# Altium footprint library 2512_C.PcbLib: 1 footprints
Each footprint in its own frame and in the unit in brackets; x right, y up, seen from the top. Pads: shape width x height; smd on the part's side, far side on the other; paste and mask are expansions set on the pad; w line width, h text height; cw(c..) or ccw(c..) is an arc to the next point about the centre after c.
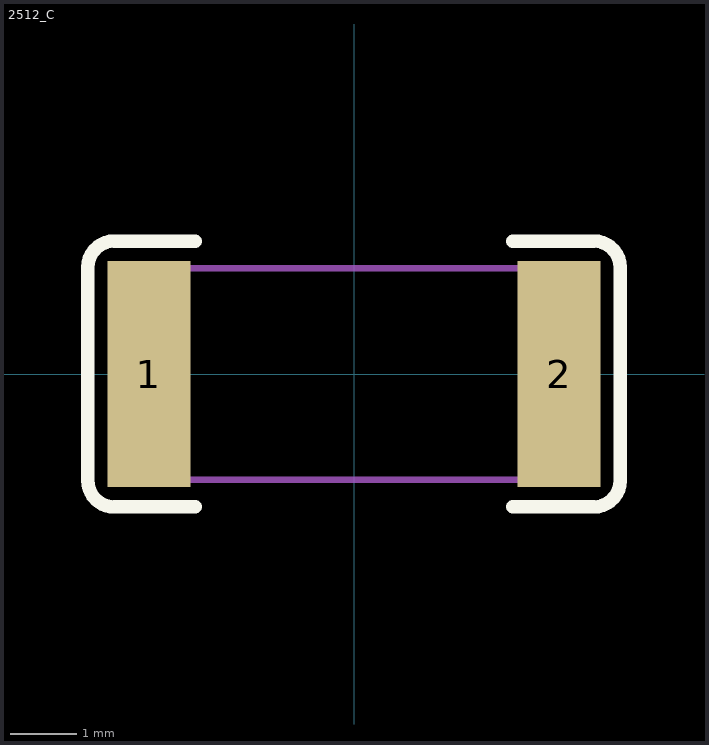
[diagram p0: the footprint, top view; thin cyan lines are the x and y axes]

## 2512_C [mm]
pads (2):
  rect 1.25x3.42 smd: 1(-3.1,0) 2(3.1,0)
Top Overlay:
  lines w0.203: -2.4,-2.01 -3.625,-2.01 cw(c-3.625,-1.61) -4.025,-1.61 -4.025,1.61 cw(c-3.625,1.61) -3.625,2.01 -2.4,2.01 ; 2.4,-2.01 3.625,-2.01 ccw(c3.625,-1.61) 4.025,-1.61 4.025,1.61 ccw(c3.625,1.61) 3.625,2.01 2.4,2.01
Mechanical 13:
  lines w0.1: -3.15,-1.6 -3.15,1.6 3.15,1.6 3.15,-1.6 -3.15,-1.6